# Altium schematic symbol library SnapEDAsch.SchLib: 1 symbol
Pins are listed as number, name and electrical type; pins without a type are passive.

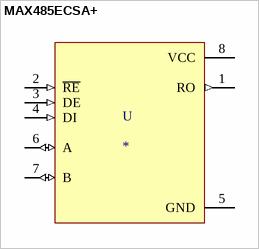
[diagram p0: symbol MAX485ECSA+]

## MAX485ECSA+
designator U
1/1 Transceiver Half RS422, RS485 8-SOIC; MP: MAX485ECSA; MF: Maxim Integrated; Package: SOIC-8 Maxim Integrated; Value: *; SnapEDA_Link: https://www.snapeda.com/parts/MAX485ECSA/Maxim%20Integrated/view-part/978440/?ref=snap; Price: None; Availability: Unavailable
footprint SOIC127P600X175-8N
pins: 1 RO (out), 2 ~{RE} (in), 3 DE (in), 4 DI (in), 5 GND (power), 6 A (io), 7 B (io), 8 VCC (power)